# Altium footprint library QFN45P300X300X85-21N.PcbLib: 1 footprints
Each footprint in its own frame and in the unit in brackets; x right, y up, seen from the top. Pads: shape width x height; smd on the part's side, far side on the other; paste and mask are expansions set on the pad; w line width, h text height; cw(c..) or ccw(c..) is an arc to the next point about the centre after c.
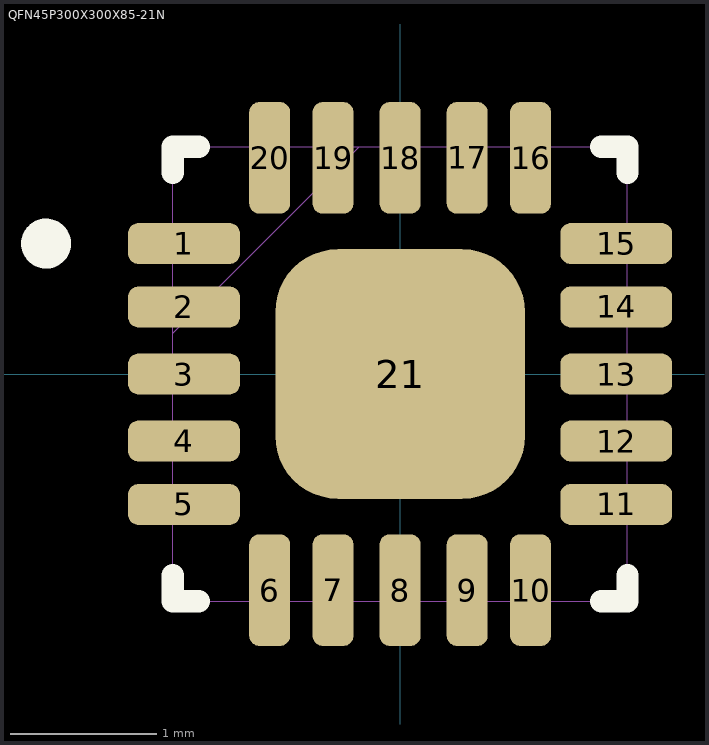
[diagram p0: the footprint, top view; thin cyan lines are the x and y axes]

## QFN45P300X300X85-21N [mil]
pads (21):
  rrect50% 30x11 smd: 1(-58,35) 2(-58,18) 3(-58,0) 4(-58,-18) 5(-58,-35) 11(58,-35) 12(58,-18) 13(58,0) 14(58,18) 15(58,35)
  rrect50% 11x30 smd: 6(-35,-58) 7(-18,-58) 8(0,-58) 9(18,-58) 10(35,-58) 16(35,58) 17(18,58) 18(0,58) 19(-18,58) 20(-35,58)
  rrect50% 67x67 smd: 21(0,0)
Top Overlay:
  circle w7.87: c-95,35 r2.76
  lines w6: -61,-54 -61,-61 -54,-61 ; -61,54 -61,61 -54,61 ; 54,-61 61,-61 61,-54 ; 54,61 61,61 61,54
Mechanical 13:
  lines w0: -61,-41 -61,-30 ; -61,-23 -61,-12 ; -61,-5 -61,5 ; -61,11 -11,61 ; -61,12 -61,23 ; -61,30 -61,41 ; -41,-61 -30,-61 ; -41,61 -30,61 ; -23,-61 -12,-61 ; -23,61 -12,61 ; -5,-61 5,-61 ; -5,61 5,61 ; 12,-61 23,-61 ; 12,61 23,61 ; 30,-61 41,-61 ; 30,61 41,61 ; 61,-41 61,-30 ; 61,-23 61,-12 ; 61,-5 61,5 ; 61,12 61,23 ; 61,30 61,41 ; -61,-61 -61,61 61,61 61,-61 -61,-61
3D body: height 49.21, standoff -1181.5, extent 0,0 0,0
3D body: height 49.21, standoff -1181.5, extent 0,0 0,0
3D body: height 49.21, standoff -1181.5, extent 118.11,0 118.11,0
3D body: height 31.5, standoff 0, extent -59.05,-59.05 59.06,59.06